# EAGLE library part XMC1000-48-SPLIT (library INF-XMC)
XMC1401-QFN48 7x7 mm Split Symbol
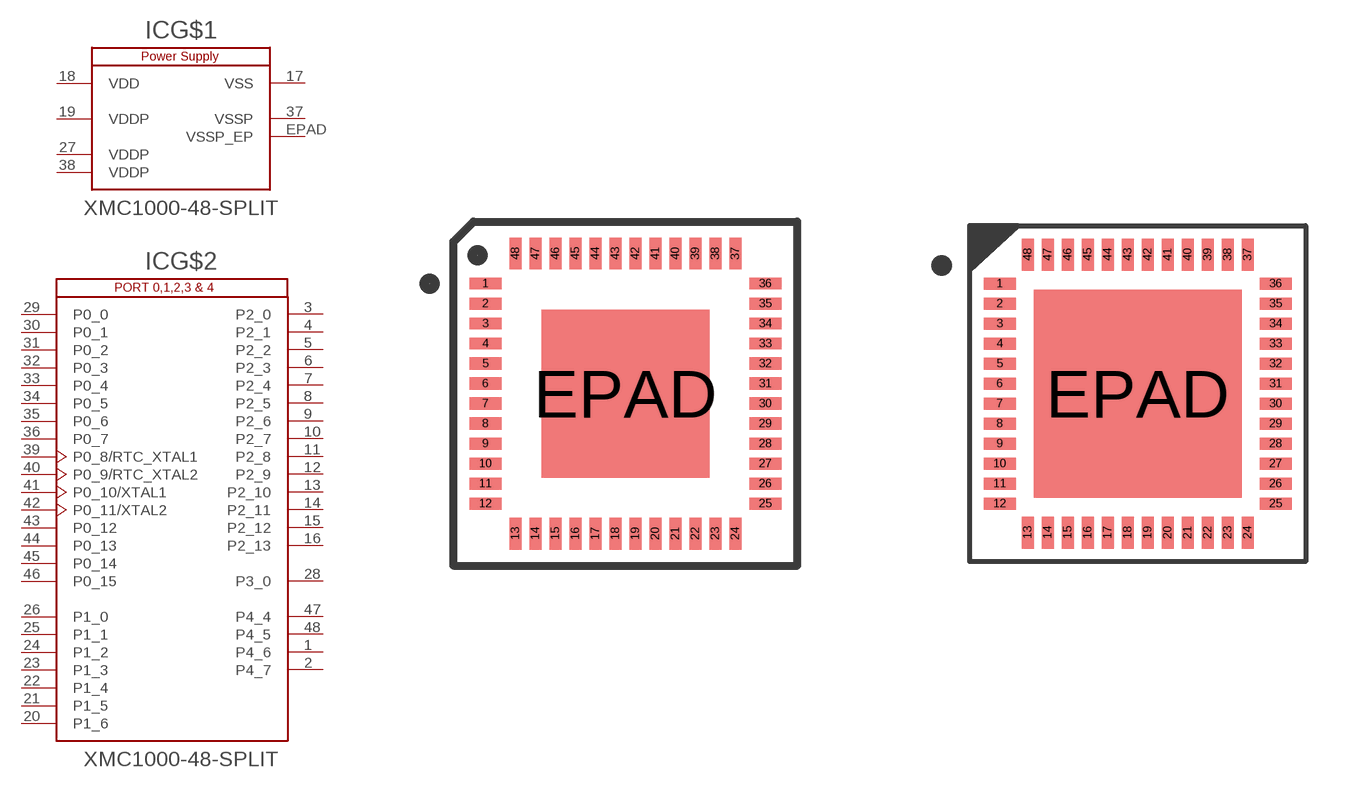
[diagram p0: symbol with the pads of QFN-48P-7X7; footprints QFN-48P-7X7, QFN-48-7X7]

Designator prefix IC; gates G$1=XMC1000-48-POWER G$2=XMC1000-48-PORTS

## XMC1000-48-SPLIT  [QFN-48P-7X7]
1  G$2:P4_6
2  G$2:P4_7
3  G$2:P2_0
4  G$2:P2_1
5  G$2:P2_2  in
6  G$2:P2_3  in
7  G$2:P2_4  in
8  G$2:P2_5  in
9  G$2:P2_6  in
10  G$2:P2_7  in
11  G$2:P2_8  in
12  G$2:P2_9  in
13  G$2:P2_10
14  G$2:P2_11
15  G$2:P2_12
16  G$2:P2_13
17  G$1:VSS  pwr
18  G$1:VDD  pwr
19  G$1:VDDP  pwr
20  G$2:P1_6
21  G$2:P1_5
22  G$2:P1_4
23  G$2:P1_3
24  G$2:P1_2
25  G$2:P1_1
26  G$2:P1_0
27  G$1:VDDP  pwr
28  G$2:P3_0
29  G$2:P0_0
30  G$2:P0_1
31  G$2:P0_2
32  G$2:P0_3
33  G$2:P0_4
34  G$2:P0_5
35  G$2:P0_6
36  G$2:P0_7
37  G$1:VSSP  pwr
38  G$1:VDDP  pwr
39  G$2:P0_8/RTC_XTAL1
40  G$2:P0_9/RTC_XTAL2
41  G$2:P0_10/XTAL1
42  G$2:P0_11/XTAL2
43  G$2:P0_12
44  G$2:P0_13
45  G$2:P0_14
46  G$2:P0_15
47  G$2:P4_4
48  G$2:P4_5
EPAD  G$1:VSSP_EP  pwr

## XMC1000-48-SPLITA  [QFN-48-7X7]
Pads as for QFN-48P-7X7

## Footprint QFN-48P-7X7 (pad centres in mm)
QFN48P-7X7
smd 0.8 x 0.3: 1 -3.5,2.75; 2 -3.5,2.25; 3 -3.5,1.75; 4 -3.5,1.25; 5 -3.5,0.75; 6 -3.5,0.25; 7 -3.5,-0.25; 8 -3.5,-0.75; 9 -3.5,-1.25; 10 -3.5,-1.75; 11 -3.5,-2.25; 12 -3.5,-2.75; 25 3.5,-2.75; 26 3.5,-2.25; 27 3.5,-1.75; 28 3.5,-1.25; 29 3.5,-0.75; 30 3.5,-0.25; 31 3.5,0.25; 32 3.5,0.75; 33 3.5,1.25; 34 3.5,1.75; 35 3.5,2.25; 36 3.5,2.75
smd 0.3 x 0.8: 13 -2.75,-3.5; 14 -2.25,-3.5; 15 -1.75,-3.5; 16 -1.25,-3.5; 17 -0.75,-3.5; 18 -0.25,-3.5; 19 0.25,-3.5; 20 0.75,-3.5; 21 1.25,-3.5; 22 1.75,-3.5; 23 2.25,-3.5; 24 2.75,-3.5; 37 2.75,3.5; 38 2.25,3.5; 39 1.75,3.5; 40 1.25,3.5; 41 0.75,3.5; 42 0.25,3.5; 43 -0.25,3.5; 44 -0.75,3.5; 45 -1.25,3.5; 46 -1.75,3.5; 47 -2.25,3.5; 48 -2.75,3.5
smd 4.2 x 4.2: EPAD 0,0

## Footprint QFN-48-7X7 (pad centres in mm)
QFN-48 (7x7)
smd 0.8 x 0.3: 1 -3.45,2.75; 2 -3.45,2.25; 3 -3.45,1.75; 4 -3.45,1.25; 5 -3.45,0.75; 6 -3.45,0.25; 7 -3.45,-0.25; 8 -3.45,-0.75; 9 -3.45,-1.25; 10 -3.45,-1.75; 11 -3.45,-2.25; 12 -3.45,-2.75; 25 3.45,-2.75; 26 3.45,-2.25; 27 3.45,-1.75; 28 3.45,-1.25; 29 3.45,-0.75; 30 3.45,-0.25; 31 3.45,0.25; 32 3.45,0.75; 33 3.45,1.25; 34 3.45,1.75; 35 3.45,2.25; 36 3.45,2.75
smd 0.3 x 0.8: 13 -2.75,-3.475; 14 -2.25,-3.475; 15 -1.75,-3.475; 16 -1.25,-3.475; 17 -0.75,-3.475; 18 -0.25,-3.475; 19 0.25,-3.475; 20 0.75,-3.475; 21 1.25,-3.475; 22 1.75,-3.475; 23 2.25,-3.475; 24 2.75,-3.475; 37 2.75,3.475; 38 2.25,3.475; 39 1.75,3.475; 40 1.25,3.475; 41 0.75,3.475; 42 0.25,3.475; 43 -0.25,3.475; 44 -0.75,3.475; 45 -1.25,3.475; 46 -1.75,3.475; 47 -2.25,3.475; 48 -2.75,3.475
smd 5.2 x 5.2: EPAD 0,0